# EAGLE library part ADG725_MUX (library miller)
Analog Devices ADG725 dual-channel 16:1 multiplexer/demultiplexer In single supply mode, tie pin Vss to GND.
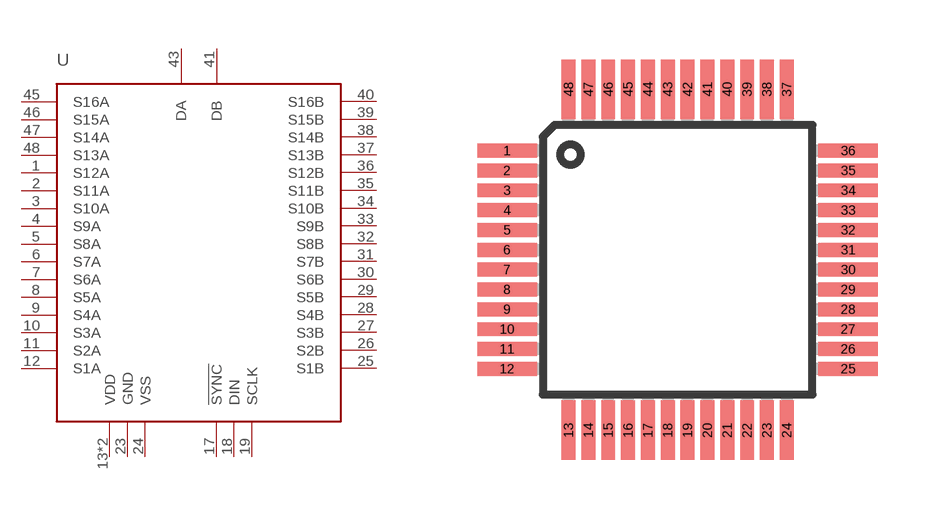
[diagram p40: symbol with the pads of TQFP48; footprint TQFP48]

Designator prefix -

## ADG725_MUX  [TQFP48]
1  S12A
2  S11A
3  S10A
4  S9A
5  S8A
6  S7A
7  S6A
8  S5A
9  S4A
10  S3A
11  S2A
12  S1A
13  VDD
14  VDD
17  !SYNC
18  DIN
19  SCLK
23  GND
24  VSS
25  S1B
26  S2B
27  S3B
28  S4B
29  S5B
30  S6B
31  S7B
32  S8B
33  S9B
34  S10B
35  S11B
36  S12B
37  S13B
38  S14B
39  S15B
40  S16B
41  DB
43  DA
45  S16A
46  S15A
47  S14A
48  S13A

## Footprint TQFP48 (pad centres in mm)
Thin Plastic Quad Flat Pack [TQFP] 48-lead
smd 1.5 x 0.35: 1 -4.3,2.75; 2 -4.3,2.25; 3 -4.3,1.75; 4 -4.3,1.25; 5 -4.3,0.75; 6 -4.3,0.25; 7 -4.3,-0.25; 8 -4.3,-0.75; 9 -4.3,-1.25; 10 -4.3,-1.75; 11 -4.3,-2.25; 12 -4.3,-2.75; 25 4.3,-2.75; 26 4.3,-2.25; 27 4.3,-1.75; 28 4.3,-1.25; 29 4.3,-0.75; 30 4.3,-0.25; 31 4.3,0.25; 32 4.3,0.75; 33 4.3,1.25; 34 4.3,1.75; 35 4.3,2.25; 36 4.3,2.75
smd 0.35 x 1.5: 13 -2.75,-4.3; 14 -2.25,-4.3; 15 -1.75,-4.3; 16 -1.25,-4.3; 17 -0.75,-4.3; 18 -0.25,-4.3; 19 0.25,-4.3; 20 0.75,-4.3; 21 1.25,-4.3; 22 1.75,-4.3; 23 2.25,-4.3; 24 2.75,-4.3; 37 2.75,4.3; 38 2.25,4.3; 39 1.75,4.3; 40 1.25,4.3; 41 0.75,4.3; 42 0.25,4.3; 43 -0.25,4.3; 44 -0.75,4.3; 45 -1.25,4.3; 46 -1.75,4.3; 47 -2.25,4.3; 48 -2.75,4.3